# Altium footprint library Header_2-Pos_Sullins_GRPB012VWQS-RC.PcbLib: 1 footprints
Each footprint in its own frame and in the unit in brackets; x right, y up, seen from the top. Pads: shape width x height; smd on the part's side, far side on the other; paste and mask are expansions set on the pad; w line width, h text height; cw(c..) or ccw(c..) is an arc to the next point about the centre after c.
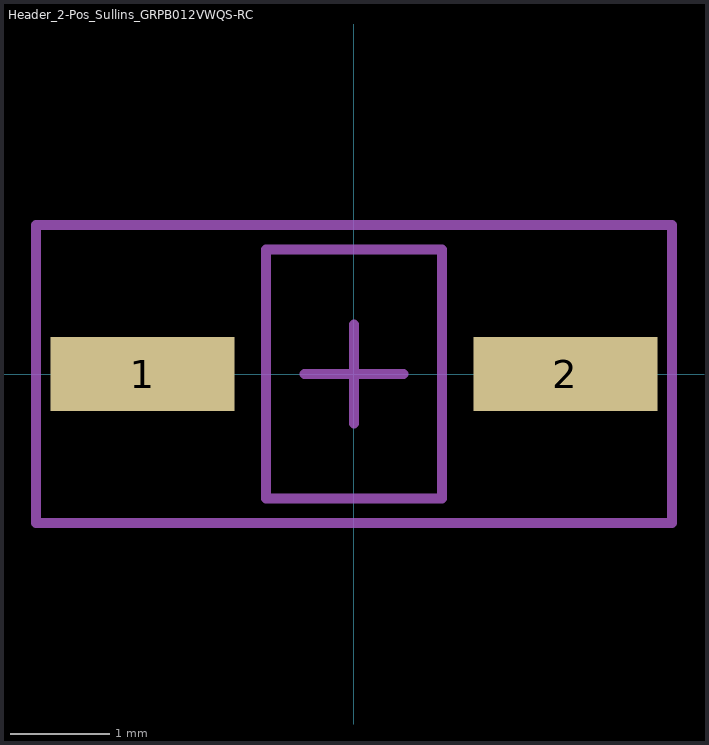
[diagram p0: the footprint, top view; thin cyan lines are the x and y axes]

## Header_2-Pos_Sullins_GRPB012VWQS-RC [mm]
height 5
pads (2):
  rect 1.85x0.74 smd: 1(-2.125,0) 2(2.125,0)
Mechanical 13:
  lines w0.1: -0.885,-1.25 0.885,-1.25 0.885,1.25 -0.885,1.25 -0.885,-1.25
Mechanical 15:
  lines w0.1: -0.5,0 0.5,0 ; 0,-0.5 0,0.5 ; -3.2,-1.5 3.2,-1.5 3.2,1.5 -3.2,1.5 -3.2,-1.5
3D body: height 5, standoff 0, extent -0.885,-1.25 0.885,1.25